# Altium integrated library Voltage_Regulators_Linear.IntLib: 2 symbols
Pins are listed as number, name and electrical type; pins without a type are passive.

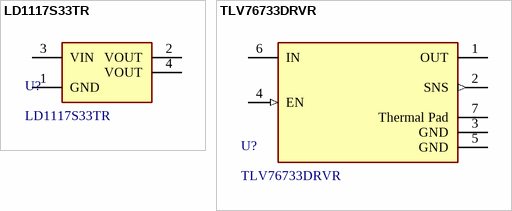
[diagram p0: symbols LD1117S33TR to TLV76733DRVR]

## LD1117S33TR
designator U?
IC REG LDO 3.3V 0.8A SOT223; Manufacturer 1: STMicroelectronics; Category 1: Voltage Regulators - Linear; Number of Outputs: 1; Max Input Voltage: 15V; Max Output Current: 1.3A; Max Power Dissipation: 12W; Quiescent Current: 10mA; Polarity: Positive; Accuracy: 1%; Output Type: Fixed; Dropout Voltage: 1.1V; Output Current: 800mA; Min Input Voltage: 4.75V; Input Bias Current: 5mA; Power Supply Rejection Ratio (PSRR): 75dB; Supplier 1: Mouser; Supplier Part Number 1: 511-LD1117S33; Manufacturer Part Number 1: LD1117S33TR; RoHS 1: Yes; Description 1: IC REG LDO 3.3V 0.8A SOT223; Pricing 1: 1=0.68000, 10=0.54000, 50=0.54000, 100=0.40100, 500=0.34000, 1000=0.26300, 2500=0.25500, 10000=0.25500 (USD); Mount: Surface Mount; Case/Package: SOT-223; Number of Pins: 4; Weight: 0.01lb; Contact Plating: Tin,Matte; Min Operating Temperature: 0°C; Max Operating Temperature: 125°C; Output Voltage: 3.3V; Packaging: Tape and Reel; Max Supply Voltage: 15V; Min Supply Voltage: 4.75V; Package Quantity: 2500; Nominal Output Voltage: 3.3V; Number of Regulators: 1; Power Dissipation: 12W; Min Output Voltage: 3.3V; Max Output Voltage: 3.3V; Termination: SMD/SMT; Voltage: 3.3V; Output Voltage Accuracy: 1%; Series: -; Output Configuration: Positive; Length: 6.5mm; Width: 3.5mm; Height: 1.8mm; Radiation Hardening: No; Reach SVHC Compliant: Yes; Lead Free: Lead Free; RoHS Compliant: Yes; ComponentLink1URL: https://datasheet.ciiva.com/19478/1390240-19478097.pdf?src-supplier=Jameco; ComponentLink1Description: https://datasheet.ciiva.com/19478/1390240-19478097.pdf?src-supplier=Jameco; ComponentLink2URL: https://datasheet.ciiva.com/1511/1776449-1511573.pdf?src-supplier=Element14; ComponentLink2Description: https://datasheet.ciiva.com/1511/1776449-1511573.pdf?src-supplier=Element14; ComponentLink3URL: https://datasheet.ciiva.com/7992/1776449-7992621.pdf?src-supplier=Element14; ComponentLink3Description: https://datasheet.ciiva.com/7992/1776449-7992621.pdf?src-supplier=Element14; ComponentLink4URL: https://datasheet.ciiva.com/28652/1776449-28652462.pdf?src-supplier=Element14; ComponentLink4Description: https://datasheet.ciiva.com/28652/1776449-28652462.pdf?src-supplier=Element14; ComponentLink5URL: https://datasheet.ciiva.com/2041/cd00000544-2041942.pdf?src-supplier=Digi-Key; ComponentLink5Description: https://datasheet.ciiva.com/2041/cd00000544-2041942.pdf?src-supplier=Digi-Key; ComponentLink6URL: https://datasheet.ciiva.com/2041/cd00000544-2041941.pdf?src-supplier=Digi-Key; ComponentLink6Description: https://datasheet.ciiva.com/2041/cd00000544-2041941.pdf?src-supplier=Digi-Key; ComponentLink7URL: https://datasheet.ciiva.com/2041/cd00000544-2041943.pdf?src-supplier=Digi-Key; ComponentLink7Description: https://datasheet.ciiva.com/2041/cd00000544-2041943.pdf?src-supplier=Digi-Key; ComponentLink8URL: https://datasheet.ciiva.com/16396/cd00000544-16396459.pdf?src-supplier=Future+Electronics; ComponentLink8Description: https://datasheet.ciiva.com/16396/cd00000544-16396459.pdf?src-supplier=Future+Electronics
footprint SOT-223-IPC-A
footprint SOT-223-IPC-B
footprint SOT-223-IPC-C
pins: 1 GND (power), 2 VOUT (power), 3 VIN (power), 4 VOUT (power)

## TLV76733DRVR
designator U?
Precision Linear Voltage Regulator Positive 3.3V 1A 6-Pin WSON T/R; Manufacturer 1: Texas Instruments; Category 1: Voltage Regulators - Linear; Supplier 1: Digi-Key; Supplier Part Number 1: 296-TLV76733DRVRCT-ND; Manufacturer Part Number 1: TLV76733DRVR; RoHS 1: Yes; Description 1: Precision Linear Voltage Regulator Positive 3.3V 1A 6-Pin WSON T/R; Stock 1: 18565; Pricing 1: 1=0.92000, 10=0.82200, 25=0.78040, 100=0.64120, 250=0.59936, 500=0.52968, 1000=0.41817 (USD); ComponentLink1URL: http://www.ti.com/general/docs/suppproductinfo.tsp?distId=10&amp;gotoUrl=http%3A%2F%2Fwww.ti.com%2Flit%2Fgpn%2Ftlv767&src-supplier=Digi-Key; ComponentLink1Description: http://www.ti.com/general/docs/suppproductinfo.tsp?distId=10&amp;gotoUrl=http%3A%2F%2Fwww.ti.com%2Flit%2Fgpn%2Ftlv767&src-supplier=Digi-Key; Supplier 2: Digi-Key; Supplier Part Number 2: 296-TLV76733DRVRDKR-ND; Manufacturer 2: Texas Instruments; Manufacturer Part Number 2: TLV76733DRVR; RoHS 2: Yes; Description 2: Precision Linear Voltage Regulator Positive 3.3V 1A 6-Pin WSON T/R; Category 2: Voltage Regulators - Linear; Stock 2: 18565; Pricing 2: 1=0.92000, 10=0.82200, 25=0.78040, 100=0.64120, 250=0.59936, 500=0.52968, 1000=0.41817 (USD); Supplier 3: Digi-Key; Supplier Part Number 3: 296-TLV76733DRVRTR-ND; Manufacturer 3: Texas Instruments; Manufacturer Part Number 3: TLV76733DRVR; RoHS 3: Yes; Description 3: Precision Linear Voltage Regulator Positive 3.3V 1A 6-Pin WSON T/R; Category 3: Voltage Regulators - Linear; Stock 3: 18000; Pricing 3: 3000=0.39450 (USD); Supplier 4: Mouser; Supplier Part Number 4: 595-TLV76733DRVR; Manufacturer 4: Texas Instruments; Manufacturer Part Number 4: TLV76733DRVR; RoHS 4: Yes; Description 4: Precision Linear Voltage Regulator Positive 3.3V 1A 6-Pin WSON T/R; Category 4: Voltage Regulators - Linear; Stock 4: 19431; Pricing 4: 1=0.92000, 10=0.82300, 25=0.78100, 50=0.78100, 100=0.64200, 250=0.60000, 500=0.53000, 1000=0.41900, 3000=0.40400, 10000=0.40400 (USD)
footprint FP-DRV0006A-IPC-A
footprint FP-DRV0006A-IPC-B
footprint FP-DRV0006A-IPC-C
pins: 1 OUT, 2 SNS (out), 3 GND (power), 4 EN (in), 5 GND (power), 6 IN (power), 7 Thermal Pad